# EAGLE library part ADS1205 (library FPGA_FOC_lib)
AD2S1205 Resolver decoder
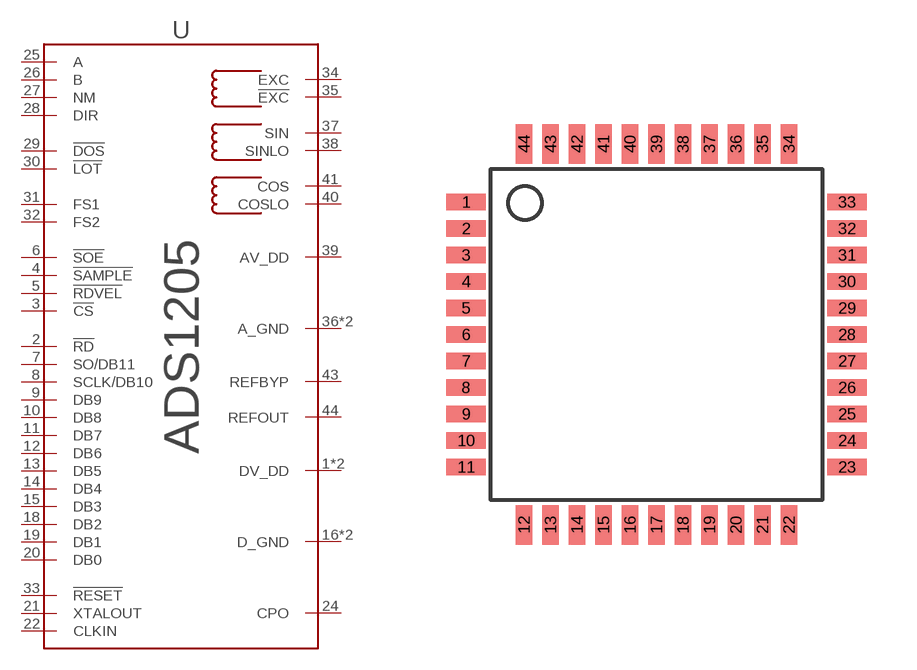
[diagram p0: symbol with the pads of LQFP44; footprint LQFP44]

Designator prefix U

## ADS1205  [LQFP44]
1  DV_DD
2  !RD
3  !CS
4  !SAMPLE
5  !RDVEL
6  !SOE
7  SO/DB11
8  SCLK/DB10
9  DB9
10  DB8
11  DB7
12  DB6
13  DB5
14  DB4
15  DB3
16  D_GND
17  DV_DD
18  DB2
19  DB1
20  DB0
21  XTALOUT
22  CLKIN
23  D_GND
24  CPO
25  A
26  B
27  NM
28  DIR
29  !DOS
30  !LOT
31  FS1
32  FS2
33  !RESET
34  EXC
35  !EXC
36  A_GND
37  SIN
38  SINLO
39  AV_DD
40  COSLO
41  COS
42  A_GND
43  REFBYP
44  REFOUT

## Footprint LQFP44 (pad centres in mm)
LQFP44 adapted from the LQFP32 according to STM (https://www.st.com/content/ccc/resource/technical/document/datasheet/group3/38/c6/ca/d1/f7/d5/4e/30/DM00092070/files/DM00092070.pdf/jcr:content/translations/en.DM00092070.pdf)
smd 1.2 x 0.5: 1 -5.75,4; 2 -5.75,3.2; 3 -5.75,2.4; 4 -5.75,1.6; 5 -5.75,0.8; 6 -5.75,0; 7 -5.75,-0.8; 8 -5.75,-1.6; 9 -5.75,-2.4; 10 -5.75,-3.2; 11 -5.75,-4; 23 5.75,-4; 24 5.75,-3.2; 25 5.75,-2.4; 26 5.75,-1.6; 27 5.75,-0.8; 28 5.75,0; 29 5.75,0.8; 30 5.75,1.6; 31 5.75,2.4; 32 5.75,3.2; 33 5.75,4
smd 0.5 x 1.2: 12 -4,-5.75; 13 -3.2,-5.75; 14 -2.4,-5.75; 15 -1.6,-5.75; 16 -0.8,-5.75; 17 0,-5.75; 18 0.8,-5.75; 19 1.6,-5.75; 20 2.4,-5.75; 21 3.2,-5.75; 22 4,-5.75; 34 4,5.75; 35 3.2,5.75; 36 2.4,5.75; 37 1.6,5.75; 38 0.8,5.75; 39 0,5.75; 40 -0.8,5.75; 41 -1.6,5.75; 42 -2.4,5.75; 43 -3.2,5.75; 44 -4,5.75